# Altium integrated library ARDUINO_PRO_MINI.IntLib: 1 symbol
Pins are listed as number, name and electrical type; pins without a type are passive.

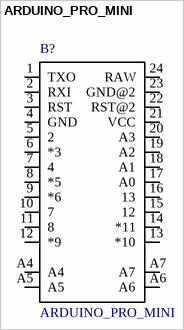
[diagram p0: symbol ARDUINO_PRO_MINI]

## ARDUINO_PRO_MINI
designator B?
Arduino Pro Mini 328 - 3.3V/8 MHz; SnapEDA_Link: https://www.snapeda.com/parts/ARDUINO%20PRO%20MINI/Arduino/view-part/?ref=snap; MF: Arduino; Price: None; Availability: Unavailable; Package: Package Analog Devices; MP: ARDUINO PRO MINI; Value: *
footprint *ARDUINO_PRO_MINI_ARDUINO_PRO_MINI(Primary)
pins: 1 TXO (io), 2 RXI (io), 3 RST (io), 4 GND (power), 5 2 (io), 6 *3 (io), 7 4 (io), 8 *5 (io), 9 *6 (io), 10 7 (io), 11 8 (io), 12 *9 (io), 13 *10 (io), 14 *11 (io), 15 12 (io), 16 13 (io), 17 A0 (io), 18 A1 (io), 19 A2 (io), 20 A3 (io), 21 VCC (power), 22 RST@2 (io), 23 GND@2 (power), 24 RAW (power), A4 (io), A5 (io), A6 (io), A7 (io)